# Altium schematic symbol library Microcontrollers.SchLib: 3 symbols
Pins are listed as number, name and electrical type; pins without a type are passive.

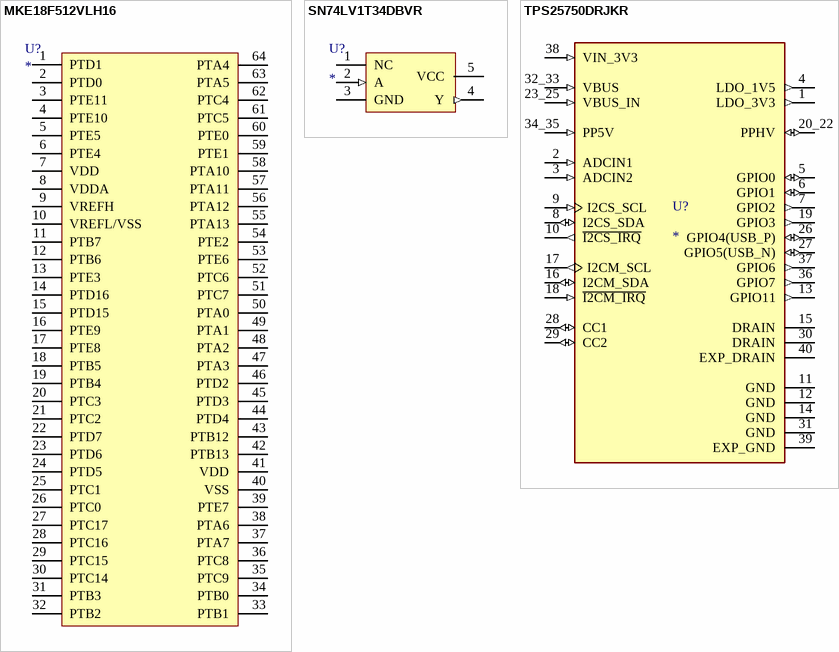
[diagram p0: symbols MKE18F512VLH16 to TPS25750DRJKR]

## MKE18F512VLH16
designator U?
Vcc: 2.7-5.5; Package: TQFP64; ComponentLink1Description: NXP; ComponentLink1URL: https://www.nxp.com/part/MKE18F512VLH16#/
footprint TQFP64 (TSQFP, 64-Leads, Body 10.00x10.00mm, Pitch 0.50mm, IPC Medium Density, MKE18F512VLH16)
pins: 1 PTD1, 2 PTD0, 3 PTE11, 4 PTE10, 5 PTE5, 6 PTE4, 7 VDD, 8 VDDA, 9 VREFH, 10 VREFL/VSS, 11 PTB7, 12 PTB6, 13 PTE3, 14 PTD16, 15 PTD15, 16 PTE9, 17 PTE8, 18 PTB5, 19 PTB4, 20 PTC3, 21 PTC2, 22 PTD7, 23 PTD6, 24 PTD5, 25 PTC1, 26 PTC0, 27 PTC17, 28 PTC16, 29 PTC15, 30 PTC14, 31 PTB3, 32 PTB2, 33 PTB1, 34 PTB0, 35 PTC9, 36 PTC8, 37 PTA7, 38 PTA6, 39 PTE7, 40 VSS, 41 VDD, 42 PTB13, 43 PTB12, 44 PTD4, 45 PTD3, 46 PTD2, 47 PTA3, 48 PTA2, 49 PTA1, 50 PTA0, 51 PTC7, 52 PTC6, 53 PTE6, 54 PTE2, 55 PTA13, 56 PTA12, 57 PTA11, 58 PTA10, 59 PTE1, 60 PTE0, 61 PTC5, 62 PTC4, 63 PTA5, 64 PTA4
1 alternate drawing of the same symbol

## SN74LV1T34DBVR
designator U?
TEXAS INSTRUMENTS         SN74LV1T34DBVR             Buffer, Shifter, 1.6 V to 5.5 V, SOT-23-5; Number of Elements: 1; Logic Function: Buffer,Inverting; High Level Output Current: -8mA; Low Level Output Current: 8mA; Max Supply Voltage: 5.5V; Min Supply Voltage: 1.6V; Polarity: Non-Inverting; Propagation Delay: 15.5ns; Quiescent Current: 1uA; Supplier 1: Farnell; Manufacturer: Texas Instruments; Manufacturer Part Number: SN74LV1T34DBVR; RoHS: Yes; Category: Buffers, Drivers and Transceivers; Stock 1: 49890; Pricing 1: 5=0.28900, 50=0.26000, 100=0.14000, 250=0.13800, 500=0.11300, 1000=0.08890, 5000=0.08350, 10000=0.07610 (GBP); Mount: Surface Mount; Case/Package: SOT-23-5; Number of Pins: 5; Weight: 0.000353oz; Min Operating Temperature: -40°C; Max Operating Temperature: 125°C; Packaging: Tape and Reel; Number of Bits per Element: 1; Number of Bits: 1; Package Quantity: 3000; Number of Input Lines: 1; Number of Output Lines: 1; Operating Supply Current: 8mA; Number of Channels: 1; Number of Inputs: 1; Number of Outputs: 1; Radiation Hardening: No; REACH SVHC: No SVHC; Lead Free: Lead Free; ComponentLink1URL: https://datasheet.ciiva.com/29634/sn74lv1t34-29634758.pdf?src-supplier=Digi-Key; ComponentLink1Description: https://datasheet.ciiva.com/29634/sn74lv1t34-29634758.pdf?src-supplier=Digi-Key; ComponentLink2URL: https://datasheet.ciiva.com/29634/sn74lv1t34-29634759.pdf?src-supplier=Digi-Key; ComponentLink2Description: https://datasheet.ciiva.com/29634/sn74lv1t34-29634759.pdf?src-supplier=Digi-Key; ComponentLink3URL: https://datasheet.ciiva.com/29634/sn74lv1t34-29634760.pdf?src-supplier=Digi-Key; ComponentLink3Description: https://datasheet.ciiva.com/29634/sn74lv1t34-29634760.pdf?src-supplier=Digi-Key; ComponentLink4URL: https://datasheet.ciiva.com/29888/sn74lv1t34-29888041.pdf?src-supplier=Avnet; ComponentLink4Description: https://datasheet.ciiva.com/29888/sn74lv1t34-29888041.pdf?src-supplier=Avnet; Supplier Part Number 1: 3119564
footprint SOT-23-5 (SOT23, 5-Leads, Body 3.05x1.75mm, Pitch 0.95mm, IPC Low Density)
pins: 1 NC "Ground", 2 A (in) "Ground", 3 GND (power) "Ground Pin", 4 Y (out) "Ground", 5 VCC (power) "Power Pin"

## TPS25750DRJKR
designator U?
USB, Type-C Controller PMIC 38-WQFN (4x6); MP: TPS25750DRJKR; MF: Texas Instruments; Package: PowerWFQFN-38 Texas Instruments; Availability: Not in stock; SnapEDA_Link: https://www.snapeda.com/parts/TPS25750DRJKR/Texas%20Instruments/view-part/5470962/?ref=snap; Value: *; Check_prices: https://www.snapeda.com/parts/TPS25750DRJKR/Texas%20Instruments/view-part/5470962/?ref=eda; Price: None
footprint IC_TPS25750DRJKR
pins: 1 LDO_3V3 (out), 2 ADCIN1 (in), 3 ADCIN2 (in), 4 LDO_1V5 (out), 5 GPIO0 (io), 6 GPIO1 (io), 7 GPIO2 (out), 8 I2CS_SDA (io), 9 I2CS_SCL (in), 10 ~{I2CS_IRQ} (out), 11 GND (power), 12 GND (power), 13 GPIO11 (out), 14 GND (power), 15 DRAIN, 16 I2CM_SDA (io), 17 I2CM_SCL (out), 18 ~{I2CM_IRQ} (in), 19 GPIO3 (out), 20_22 PPHV (io), 23_25 VBUS_IN (in), 26 GPIO4(USB_P) (io), 27 GPIO5(USB_N) (io), 28 CC1 (io), 29 CC2 (io), 30 DRAIN, 31 GND (power), 32_33 VBUS (in), 34_35 PP5V (in), 36 GPIO7 (out), 37 GPIO6 (out), 38 VIN_3V3 (in), 39 EXP_GND (power), 40 EXP_DRAIN